# Altium footprint library DB9-M-EDGE.PcbLib: 1 footprints
Each footprint in its own frame and in the unit in brackets; x right, y up, seen from the top. Pads: shape width x height; smd on the part's side, far side on the other; paste and mask are expansions set on the pad; w line width, h text height; cw(c..) or ccw(c..) is an arc to the next point about the centre after c.
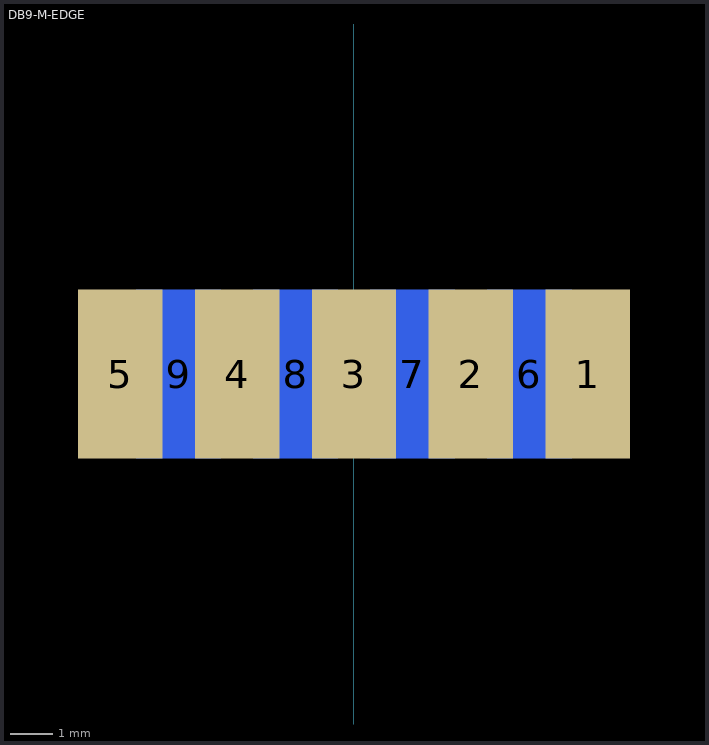
[diagram p0: the footprint, top view; thin cyan lines are the x and y axes]

## DB9-M-EDGE [mm]
pads (9):
  rect 2x4 smd: 1(5.54,-9) 2(2.77,-9) 3(0,-9) 4(-2.77,-9) 5(-5.54,-9)
  rect 2x4 smd far side: 6(4.155,-9) 7(1.385,-9) 8(-1.385,-9) 9(-4.155,-9)
3D body "anschluss_a-ds_09_pp_z.stp": height 5.28, standoff -7.27, extent -15.405,-10.9 15.405,6.3